# Altium footprint library Footprint.PcbLib: 97 footprints (part 2 of 7)
Each footprint in its own frame and in the unit in brackets; x right, y up, seen from the top. Pads: shape width x height; smd on the part's side, far side on the other; paste and mask are expansions set on the pad; w line width, h text height; cw(c..) or ccw(c..) is an arc to the next point about the centre after c.
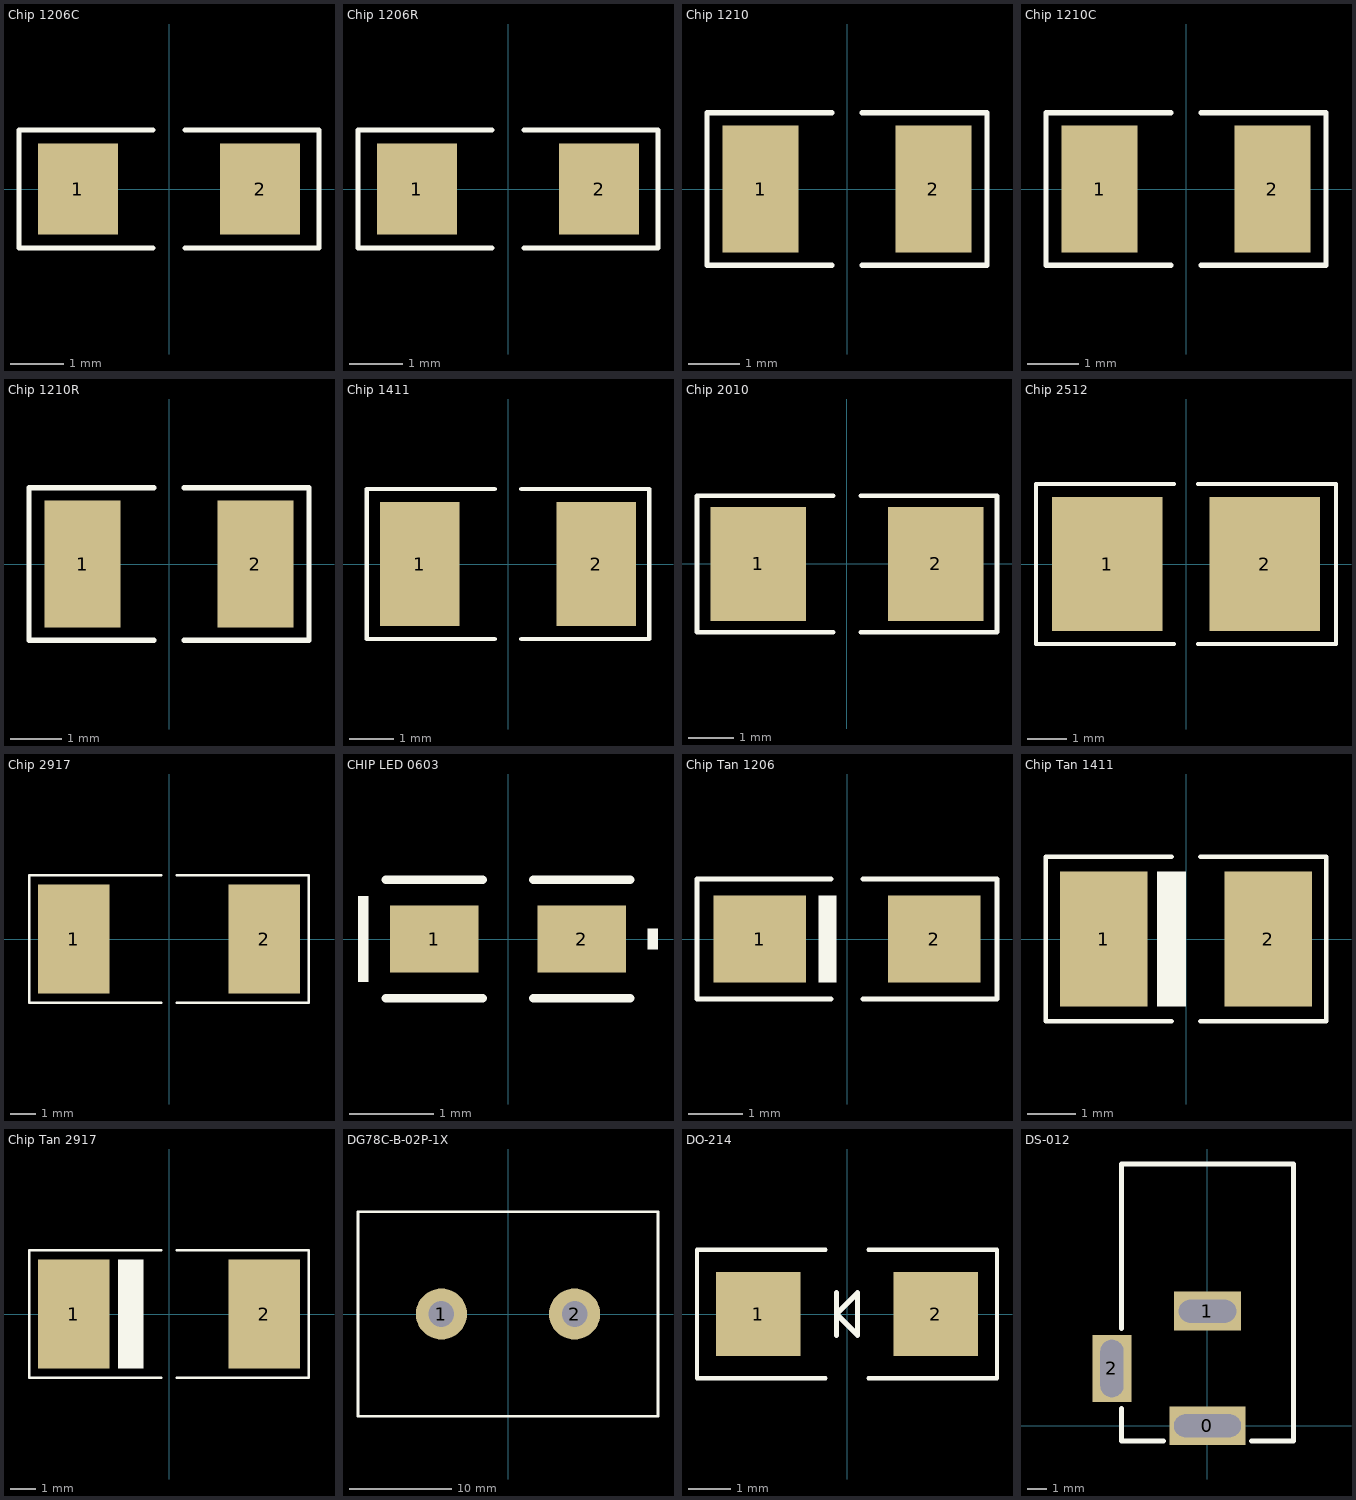
[diagram p1: the footprints below, top view; thin cyan lines are the x and y axes]

## Chip 1206C [mm]
pads (2):
  rect 1.5x1.7 smd: 1(-1.7,0) 2(1.7,0)
Top Overlay:
  lines w0.1: -0.3,-1.1 -2.8,-1.1 -2.8,1.1 -0.3,1.1 ; 0.3,-1.1 2.8,-1.1 2.8,1.1 0.3,1.1
3D body: height 1.5, standoff 0, extent 1.1,-0.8 1.6,0.8
3D body: height 1.5, standoff 0, extent -1.6,-0.8 -1.1,0.8
3D body: height 1.48, standoff 0.02, extent -1.1,-0.8 1.1,0.8

## Chip 1206R [mm]
pads (2):
  rect 1.5x1.7 smd: 1(-1.7,0) 2(1.7,0)
Top Overlay:
  lines w0.1: -0.3,-1.1 -2.8,-1.1 -2.8,1.1 -0.3,1.1 ; 0.3,-1.1 2.8,-1.1 2.8,1.1 0.3,1.1
3D body: height 0.5, standoff 0.05, extent -1.15,-0.8 1.15,0.8
3D body: height 0.5, standoff 0, extent 1.15,-0.8 1.6,0.8
3D body: height 0.5, standoff 0, extent -1.6,-0.8 -1.15,0.8
3D body: height 0.55, standoff 0.5, extent -1.15,-0.8 1.15,0.8

## Chip 1210 [mm]
pads (2):
  rect 1.5x2.5 smd: 1(-1.7,0) 2(1.7,0)
Top Overlay:
  lines w0.1: -0.3,-1.5 -2.75,-1.5 -2.75,1.5 -0.3,1.5 ; 0.3,-1.5 2.75,-1.5 2.75,1.5 0.3,1.5

## Chip 1210C [mm]
pads (2):
  rect 1.5x2.5 smd: 1(-1.7,0) 2(1.7,0)
Top Overlay:
  lines w0.1: -0.3,-1.5 -2.75,-1.5 -2.75,1.5 -0.3,1.5 ; 0.3,-1.5 2.75,-1.5 2.75,1.5 0.3,1.5
3D body: height 1.68, standoff 0.02, extent -1.1,-1.25 1.1,1.25
3D body: height 1.7, standoff 0, extent -1.6,-1.25 -1.1,1.25
3D body: height 1.7, standoff 0, extent 1.1,-1.25 1.6,1.25

## Chip 1210R [mm]
pads (2):
  rect 1.5x2.5 smd: 1(-1.7,0) 2(1.7,0)
Top Overlay:
  lines w0.1: -0.3,-1.5 -2.75,-1.5 -2.75,1.5 -0.3,1.5 ; 0.3,-1.5 2.75,-1.5 2.75,1.5 0.3,1.5
3D body: height 0.5, standoff 0.05, extent -1.1,-1.25 1.1,1.25
3D body: height 0.5, standoff 0, extent 1.1,-1.25 1.6,1.25
3D body: height 0.5, standoff 0, extent -1.6,-1.25 -1.1,1.25
3D body: height 0.55, standoff 0.5, extent -1.1,-1.25 1.1,1.25

## Chip 1411 [mm]
pads (2):
  rect 1.8x2.8 smd: 1(-2,0) 2(2,0)
Top Overlay:
  lines w0.1: -0.3,-1.7 -3.2,-1.7 -3.2,1.7 -0.3,1.7 ; 0.3,-1.7 3.2,-1.7 3.2,1.7 0.3,1.7

## Chip 2010 [mm]
pads (2):
  rect 2.1x2.5 smd: 1(-1.95,0) 2(1.95,0)
Top Overlay:
  lines w0.1: -0.3,-1.5 -3.302,-1.5 -3.302,1.5 -0.3,1.5 ; 0.3,-1.5 3.302,-1.5 3.302,1.5 0.3,1.5

## Chip 2512 [mm]
pads (2):
  rect 2.8x3.4 smd: 1(-2,0) 2(2,0)
Top Overlay:
  lines w0.1: -0.3,-2.032 -3.81,-2.032 -3.81,2.032 -0.3,2.032 ; 0.3,-2.032 3.81,-2.032 3.81,2.032 0.3,2.032

## Chip 2917 [mm]
pads (2):
  rect 2.8x4.3 smd: 1(-3.75,0) 2(3.75,0)
Top Overlay:
  lines w0.1: -0.3,-2.5 -5.5,-2.5 -5.5,2.5 -0.3,2.5 ; 0.3,-2.5 5.5,-2.5 5.5,2.5 0.3,2.5

## CHIP LED 0603 [mm]
pads (2):
  rect 1.05x0.8 smd: 1(-0.875,0) 2(0.875,0)
Top Overlay:
  rectangle: 1.651,-0.127 1.778,0.127
  rectangle: -1.778,-0.508 -1.651,0.508
  lines w0.1: -1.45,-0.7 -0.3,-0.7 ; -1.45,0.7 -0.3,0.7 ; 0.3,-0.7 1.45,-0.7 ; 0.3,0.7 1.45,0.7
3D body: height 0.2, standoff 0, extent -0.8,-0.4 -0.5,0.4
3D body: height 0.4, standoff 0.2, extent -0.5,-0.4 0.5,0.4
3D body: height 0.2, standoff 0, extent 0.5,-0.4 0.8,0.4
3D body: height 0.2, standoff 0, extent -0.5,-0.4 0.5,0.4

## Chip Tan 1206 [mm]
pads (2):
  rect 1.7x1.6 smd: 1(-1.6,0) 2(1.6,0)
Top Overlay:
  rectangle: -0.52,-0.8 -0.19,0.8
  lines w0.1: -0.3,-1.1 -2.75,-1.1 -2.75,1.1 -0.3,1.1 ; 0.3,-1.1 2.75,-1.1 2.75,1.1 0.3,1.1
3D body: height 1.5, standoff 0.2, extent -1.4,-0.8 -1.2,0.8
3D body: height 1.6, standoff 1.5, extent -1.4,-0.8 -1.2,0.8
3D body: height 1.6, standoff 0.2, extent -1.2,-0.8 -0.55,0.8
3D body: height 0.9, standoff 0.8, extent -1.6,0.3 -1.4,0.6
3D body: height 0.9, standoff 0.8, extent -1.6,-0.6 -1.4,-0.3
3D body: height 0.1, standoff 0, extent -1.6,-0.6 -0.8,0.6
3D body: height 0.8, standoff 0.1, extent -1.6,-0.6 -1.5,0.6
3D body: height 0.8, standoff 0.1, extent 1.5,-0.6 1.6,0.6
3D body: height 0.1, standoff 0, extent 0.8,-0.6 1.6,0.6
3D body: height 0.9, standoff 0.8, extent 1.4,0.3 1.6,0.6
3D body: height 0.9, standoff 0.8, extent 1.4,-0.6 1.6,-0.3
3D body: height 1.6, standoff 0.2, extent 0.55,-0.8 1.4,0.8
3D body: height 1.6, standoff 0, extent -0.55,-0.8 0.55,0.8

## Chip Tan 1411 [mm]
pads (2):
  rect 1.8x2.8 smd: 1(-1.7,0) 2(1.7,0)
Top Overlay:
  rectangle: -0.6,-1.4 0,1.4
  lines w0.1: -0.3,-1.7 -2.9,-1.7 -2.9,1.7 -0.3,1.7 ; 0.3,-1.7 2.9,-1.7 2.9,1.7 0.3,1.7
3D body: height 1.8, standoff 0.2, extent -1.55,-1.4 -1.15,1.4
3D body: height 1.9, standoff 1.8, extent -1.55,-1.4 -1.15,1.4
3D body: height 0.85, standoff 0.1, extent 1.65,-1.1 1.75,1.1
3D body: height 0.1, standoff 0, extent 0.95,-1.1 1.75,1.1
3D body: height 0.95, standoff 0.85, extent 1.55,0.55 1.75,1.1
3D body: height 0.95, standoff 0.85, extent 1.55,-1.1 1.75,-0.55
3D body: height 1.9, standoff 0.2, extent 0.7,-1.4 1.55,1.4
3D body: height 1.9, standoff 0.2, extent -1.15,-1.4 -0.7,1.4
3D body: height 0.95, standoff 0.85, extent -1.75,0.55 -1.55,1.1
3D body: height 0.95, standoff 0.85, extent -1.75,-1.1 -1.55,-0.55
3D body: height 0.1, standoff 0, extent -1.75,-1.1 -0.95,1.1
3D body: height 0.85, standoff 0.1, extent -1.75,-1.1 -1.65,1.1
3D body: height 1.9, standoff 0, extent -0.7,-1.4 0.7,1.4

## Chip Tan 2917 [mm]
pads (2):
  rect 2.8x4.3 smd: 1(-3.75,0) 2(3.75,0)
Top Overlay:
  rectangle: -2,-2.15 -1,2.15
  lines w0.1: -0.3,-2.5 -5.5,-2.5 -5.5,2.5 -0.3,2.5 ; 0.3,-2.5 5.5,-2.5 5.5,2.5 0.3,2.5
3D body: height 2.89, standoff 0.2, extent -3.45,-2.15 -2.85,2.15
3D body: height 2.9, standoff 2.89, extent -3.45,-2.15 -2.85,2.15
3D body: height 2.9, standoff 0.2, extent -2.85,-2.15 -2.2,2.15
3D body: height 1.45, standoff 1.35, extent -3.65,0.65 -3.45,1.2
3D body: height 1.45, standoff 1.35, extent -3.65,-1.2 -3.45,-0.65
3D body: height 0.1, standoff 0, extent -3.65,-1.2 -2.35,1.2
3D body: height 1.35, standoff 0.1, extent -3.65,-1.2 -3.55,1.2
3D body: height 1.35, standoff 0.1, extent 3.55,-1.2 3.65,1.2
3D body: height 0.1, standoff 0, extent 2.35,-1.2 3.65,1.2
3D body: height 1.45, standoff 1.35, extent 3.45,0.65 3.65,1.2
3D body: height 1.45, standoff 1.35, extent 3.45,-1.2 3.65,-0.65
3D body: height 2.9, standoff 0.2, extent 2.2,-2.15 3.45,2.15
3D body: height 2.9, standoff 0, extent -2.2,-2.15 2.2,2.15

## DG78C-B-02P-1X [mm]
pads (2):
  round 5 hole 2.5: 1(-6.5,0) 2(6.5,0)
Top Overlay:
  lines w0.254: -14.65,-10 -14.65,10 14.65,10 14.65,-10 -14.65,-10

## DO-214 [mm]
pads (2):
  rect 2x2 smd: 1(-2.1,0) 2(2.1,0)
Top Overlay:
  lines w0.1: -0.508,-1.524 -3.556,-1.524 -3.556,1.524 -0.508,1.524 ; 0.508,-1.524 3.556,-1.524 3.556,1.524 0.508,1.524
  lines w0.127: -0.25,-0.5 -0.25,0.5 ; -0.25,0 0.25,0.5 0.25,-0.5 -0.25,0

## DS-012 [mm]
pads (3):
  rect 4x2.032 hole 1.2 slot 3.5 at 0 deg: 0(0,0)
  rect 3.5x2.032 hole 1.2 slot 3 at 0 deg: 1(0,6)
  rect 2.032x3.5 hole 1.2 slot 3 at 90 deg: 2(-5,3)
Top Overlay:
  lines w0.254: -4.5,0.9 -4.5,-0.8 -2.3,-0.8 ; -4.5,5.1 -4.5,13.7 4.5,13.7 4.5,-0.8 2.3,-0.8
3D body: height 11, standoff 0, extent -4.5,10.2 4.5,13.7
3D body: height 6.5, standoff 0, extent -4.5,0.2 4.5,10.2
3D body: height 10.96, standoff 2, extent -4.5,0.2 4.482,10.2
3D body: height 0, standoff -2.75, extent -1.25,5.875 1.25,6.125
3D body: height 6.5, standoff -2, extent -1.5,-0.15 1.5,0.15
3D body: height 7.99, standoff 5, extent -1.5,-0.15 1.494,0.15
3D body: height -0.51, standoff -3.5, extent -1.5,-0.15 1.494,0.15
3D body: height -1.51, standoff -4, extent -1.25,5.875 1.245,6.125
3D body: height 4, standoff -2.25, extent -5.15,1.75 -4.85,4.25
3D body: height -1.01, standoff -3.5, extent -5.15,1.752 -4.85,4.248
3D body: height 4.3, standoff 4, extent -5.15,1.75 -4.5,4.25
3D body: height 7.29, standoff 5.7, extent -0.801,-0.4 0.795,-0.15